# EAGLE library part ADG1408YRUZ (library analog-devices_custom)
4 Ohm RON, 8-Channel, ±15 V/+12 V/±5 V iCMOS Multiplexers Source: 8x ADG1408_1409.pdf
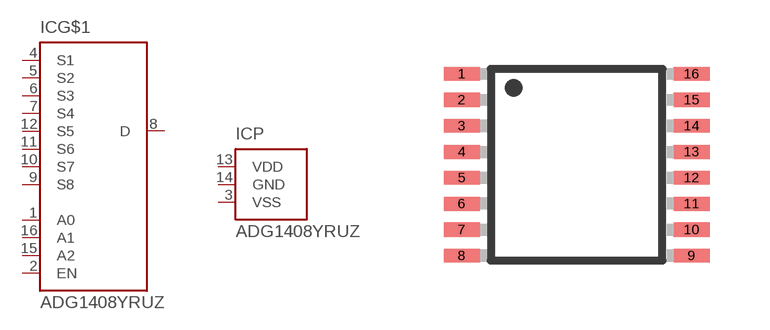
[diagram p104: symbol with the pads of TSSOP16; footprint TSSOP16]

Designator prefix IC; gates G$1=ADG1408 P=PWR-VSS_GND_VDD

## ADG1408YRUZ (MPN: ADG1408YRUZ; OC_FARNELL: 1438940; OC_NEWARK: 28M3586)  [TSSOP16]
1  G$1:A0  in
2  G$1:EN  in
3  P:VSS  pwr
4  G$1:S1
5  G$1:S2
6  G$1:S3
7  G$1:S4
8  G$1:D
9  G$1:S8
10  G$1:S7
11  G$1:S6
12  G$1:S5
13  P:VDD  pwr
14  P:GND  pwr
15  G$1:A2  in
16  G$1:A1  in

## Footprint TSSOP16 (pad centres in mm)
16-Lead Thin Shrink Small Outline Package [TSSOP] (RU-16) Source: 8x ADG1408_1409.pdf
smd 0.9 x 0.35: 1 -2.875,2.275; 2 -2.875,1.625; 3 -2.875,0.975; 4 -2.875,0.325; 5 -2.875,-0.325; 6 -2.875,-0.975; 7 -2.875,-1.625; 8 -2.875,-2.275; 9 2.875,-2.275; 10 2.875,-1.625; 11 2.875,-0.975; 12 2.875,-0.325; 13 2.875,0.325; 14 2.875,0.975; 15 2.875,1.625; 16 2.875,2.275